# EAGLE library part RN-131 (library Hoektronics)
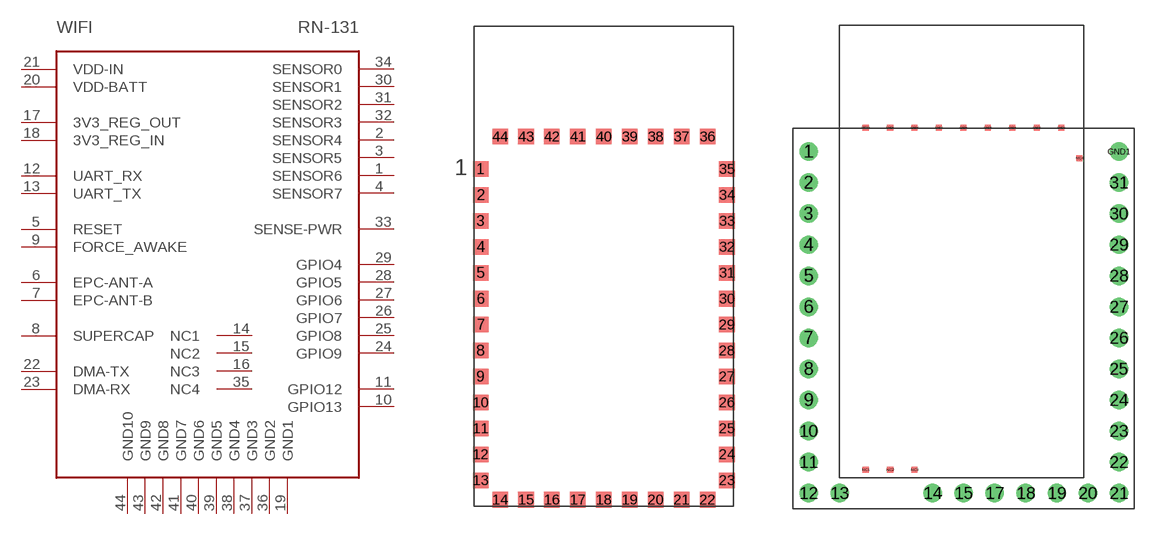
[diagram p12: symbol with the pads of RN-131; footprints RN-131, RN-131-CARRIER]

Designator prefix WIFI

## RN-131SMT  [RN-131]
1  SENSOR6
2  SENSOR4
3  SENSOR5
4  SENSOR7
5  RESET
6  EPC-ANT-A
7  EPC-ANT-B
8  SUPERCAP
9  FORCE_AWAKE
10  GPIO13
11  GPIO12
12  UART_RX
13  UART_TX
14  NC1
15  NC2
16  NC3
17  3V3_REG_OUT
18  3V3_REG_IN
19  GND1
20  VDD-BATT
21  VDD-IN
22  DMA-TX
23  DMA-RX
24  GPIO9
25  GPIO8
26  GPIO7
27  GPIO6
28  GPIO5
29  GPIO4
30  SENSOR1
31  SENSOR2
32  SENSOR3
33  SENSE-PWR
34  SENSOR0
35  NC4
36  GND2
37  GND3
38  GND4
39  GND5
40  GND6
41  GND7
42  GND8
43  GND9
44  GND10

## RN-131PTC  [RN-131-CARRIER]
1  SENSOR6
2  SENSOR4
3  SENSOR5
4  SENSOR7
5  RESET
6  EPC-ANT-A
7  EPC-ANT-B
8  SUPERCAP
9  FORCE_AWAKE
10  GPIO13
11  GPIO12
12  UART_RX
13  UART_TX
14  3V3_REG_OUT
15  3V3_REG_IN
17  VDD-BATT
18  VDD-IN
19  DMA-TX
20  DMA-RX
21  GPIO9
22  GPIO8
23  GPIO7
24  GPIO6
25  GPIO5
26  GPIO4
27  SENSOR1
28  SENSOR2
29  SENSOR3
30  SENSE-PWR
31  SENSOR0
GND1  GND1
GND2  GND2
GND3  GND3
GND4  GND4
GND5  GND5
GND6  GND6
GND7  GND7
GND8  GND8
GND9  GND9
GND10  GND10
NC1  NC1
NC2  NC2
NC3  NC3
NC4  NC4

## Footprint RN-131 (pad centres in mm)
smd 1.2 x 1.2: 1 0,25.5; 2 0,23.5; 3 0,21.5; 4 0,19.5; 5 0,17.5; 6 0,15.5; 7 0,13.5; 8 0,11.5; 9 0,9.5; 10 0,7.5; 11 0,5.5; 12 0,3.5; 13 0,1.5; 14 1.5,0; 15 3.5,0; 16 5.5,0; 17 7.5,0; 18 9.5,0; 19 11.5,0; 20 13.5,0; 21 15.5,0; 22 17.5,0; 23 19,1.5; 24 19,3.5; 25 19,5.5; 26 19,7.5; 27 19,9.5; 28 19,11.5; 29 19,13.5; 30 19,15.5; 31 19,17.5; 32 19,19.5; 33 19,21.5; 34 19,23.5; 35 19,25.5; 36 17.5,28; 37 15.5,28; 38 13.5,28; 39 11.5,28; 40 9.5,28; 41 7.5,28; 42 5.5,28; 43 3.5,28; 44 1.5,28

## Footprint RN-131-CARRIER (pad centres in mm)
drill 1: 1 -3.175,26.035; 2 -3.175,23.495; 3 -3.175,20.955; 4 -3.175,18.415; 5 -3.175,15.875; 6 -3.175,13.335; 7 -3.175,10.795; 8 -3.175,8.255; 9 -3.175,5.715; 10 -3.175,3.175; 11 -3.175,0.635; 12 -3.175,-1.905; 13 -0.635,-1.905; 14 6.985,-1.905; 15 9.525,-1.905; 17 12.065,-1.905; 18 14.605,-1.905; 19 17.145,-1.905; 20 19.685,-1.905; 21 22.225,-1.905; 22 22.225,0.635; 23 22.225,3.175; 24 22.225,5.715; 25 22.225,8.255; 26 22.225,10.795; 27 22.225,13.335; 28 22.225,15.875; 29 22.225,18.415; 30 22.225,20.955; 31 22.225,23.495; GND1 22.225,26.035
smd 0.5 x 0.5: GND2 17.5,28; GND3 15.5,28; GND4 13.5,28; GND5 11.5,28; GND6 9.5,28; GND7 7.5,28; GND8 5.5,28; GND9 3.5,28; GND10 1.5,28; NC1 1.5,0; NC2 3.5,0; NC3 5.5,0; NC4 19,25.5